# Altium footprint library DT-38T.PcbLib: 1 footprints
Each footprint in its own frame and in the unit in brackets; x right, y up, seen from the top. Pads: shape width x height; smd on the part's side, far side on the other; paste and mask are expansions set on the pad; w line width, h text height; cw(c..) or ccw(c..) is an arc to the next point about the centre after c.
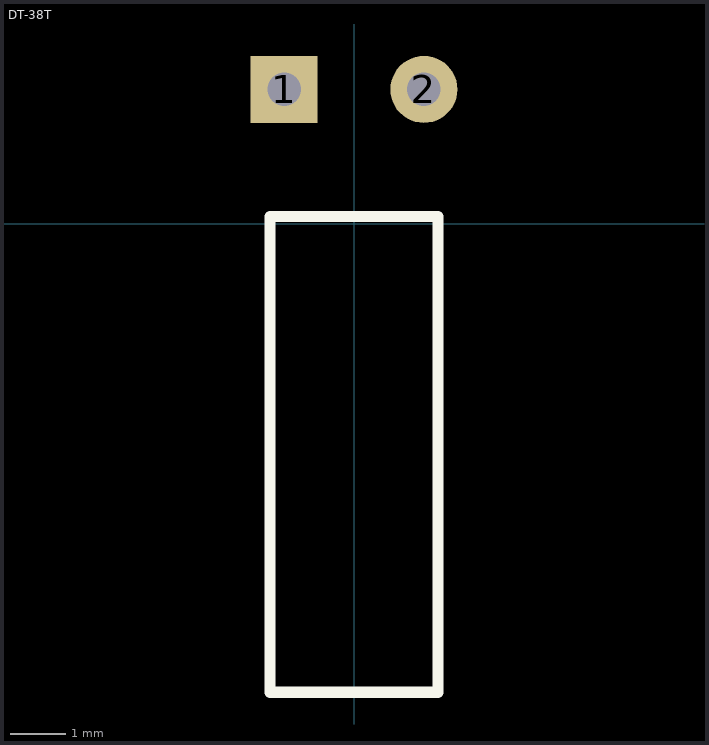
[diagram p0: the footprint, top view; thin cyan lines are the x and y axes]

## DT-38T [mm]
pads (2):
  rect 1.2x1.2 hole 0.6: 1(-1.25,2.4)
  round 1.2 hole 0.6: 2(1.25,2.4)
Top Overlay:
  lines w0.2: -1.5,-8.382 1.5,-8.382 1.5,0.127 -1.5,0.127 -1.5,-8.382
3D body "DT-38.STEP": height 3, standoff -0.45, extent -1.5,-8.427 1.5,2.589